# EAGLE library part SIP-RESISTORS (library FiftyOneFunParts)
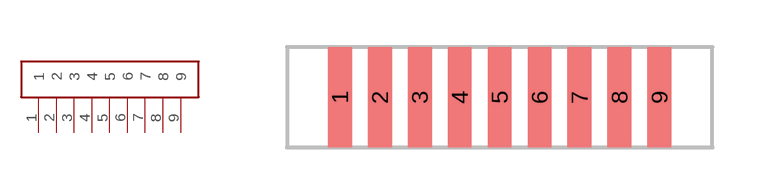
[diagram p8: symbol with the pads of SIP-RESISTORS; footprint SIP-RESISTORS]

Designator prefix -

## SIP-RESISTORS  [SIP-RESISTORS]
1  1
2  2
3  3
4  4
5  5
6  6
7  7
8  8
9  9

## Footprint SIP-RESISTORS (pad centres in mm)
smd 0.76 x 3.18: 1 -5.08,0; 2 -3.81,0; 3 -2.54,0; 4 -1.27,0; 5 0,0; 6 1.27,0; 7 2.54,0; 8 3.81,0; 9 5.08,0